# EAGLE library part CL652S (library led-citizen-electronics)
High power White LED for general purpose lighting mounting from bottom (MIRROR) Source: http://www.c-e.co.jp/products/pdf/high_power_w_led/high_power_w_led_g.pdf
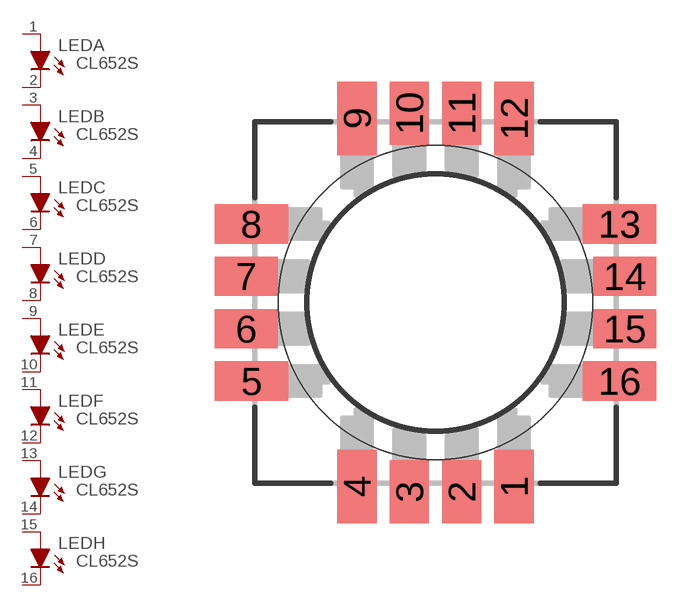
[diagram p0: symbol with the pads of CL652S; footprint CL652S]

Designator prefix LED; gates A=LED_PAD B=LED_PAD C=LED_PAD D=LED_PAD E=LED_PAD F=LED_PAD G=LED_PAD H=LED_PAD

## CL652S  [CL652S]
1  A:A  pas
2  A:C  pas
3  B:A  pas
4  B:C  pas
5  C:A  pas
6  C:C  pas
7  D:A  pas
8  D:C  pas
9  E:A  pas
10  E:C  pas
11  F:A  pas
12  F:C  pas
13  G:A  pas
14  G:C  pas
15  H:A  pas
16  H:C  pas

## Footprint CL652S (pad centres in mm)
High power White LED for general purpose lighting Weiße Hochleistungs-LED für Universalbeleuchtung mounting from bottom (MIRROR) Source: http://www.c-e.co.jp/products/pdf/high_power_w_led/high_power_w_led_g.pdf
smd 1.5 x 2.8: 1 3,-7.025; 4 -3,-7.025; 9 -3,7.025; 12 3,7.025
smd 1.5 x 2.4: 2 1,-7.225; 3 -1,-7.225; 10 -1,7.225; 11 1,7.225
smd 2.8 x 1.5: 5 -7.025,-3; 8 -7.025,3; 13 7.025,3; 16 7.025,-3
smd 2.4 x 1.5: 6 -7.225,-1; 7 -7.225,1; 14 7.225,1; 15 7.225,-1
hole 12 at 0,0